# Altium schematic symbol library DIP_4X_SPST.Schlib: 1 symbol
Pins are listed as number, name and electrical type; pins without a type are passive.

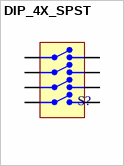
[diagram p0: symbol DIP_4X_SPST]

## DIP_4X_SPST
designator S?
4X SPST DIP Switch
pins: 1, 2, 3, 4, 5, 6, 7, 8